# Altium footprint library Con IDC.PcbLib: 111 footprints (part 7 of 8)
Each footprint in its own frame and in the unit in brackets; x right, y up, seen from the top. Pads: shape width x height; smd on the part's side, far side on the other; paste and mask are expansions set on the pad; w line width, h text height; cw(c..) or ccw(c..) is an arc to the next point about the centre after c.
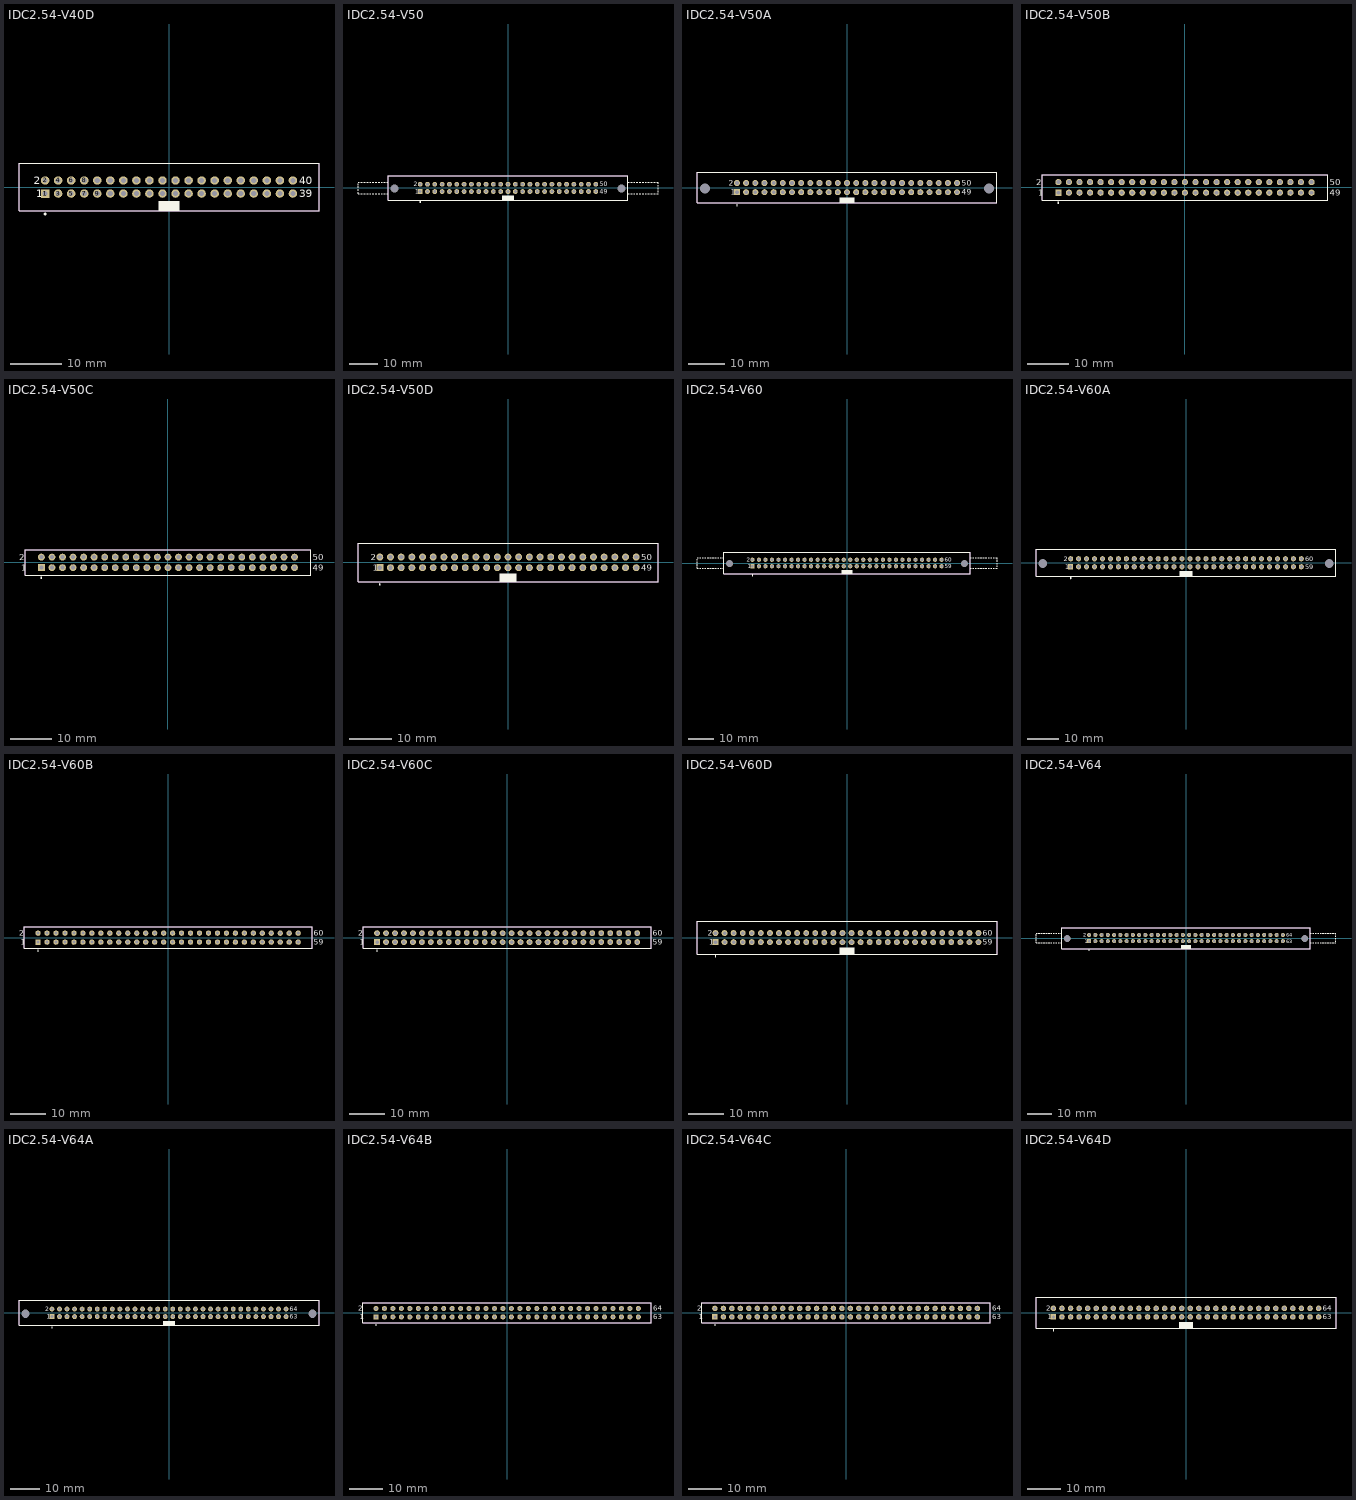
[diagram p6: the footprints below, top view; thin cyan lines are the x and y axes]

## IDC2.54-V40D [mm] "Connector; IDC, Low Profile Male Header, Thru-Hole; 40 Position; Vertical; Pitch 2.54 mm; Body 58.42 x 9.2 x 9.45 mm (LxWxH)"
height 9.45
pads (40):
  rect 1.65x1.65 hole 1: 1(-24.13,-1.27)
  round 1.65 hole 1: 2(-24.13,1.27) 3(-21.59,-1.27) 4(-21.59,1.27) 5(-19.05,-1.27) 6(-19.05,1.27) 7(-16.51,-1.27) 8(-16.51,1.27) 9(-13.97,-1.27) 10(-13.97,1.27) 11(-11.43,-1.27) 12(-11.43,1.27) 13(-8.89,-1.27) 14(-8.89,1.27) 15(-6.35,-1.27) 16(-6.35,1.27) 17(-3.81,-1.27) 18(-3.81,1.27) 19(-1.27,-1.27) 20(-1.27,1.27) 21(1.27,-1.27) 22(1.27,1.27) 23(3.81,-1.27) 24(3.81,1.27) 25(6.35,-1.27) 26(6.35,1.27) 27(8.89,-1.27) 28(8.89,1.27) 29(11.43,-1.27) 30(11.43,1.27) 31(13.97,-1.27) 32(13.97,1.27) 33(16.51,-1.27) 34(16.51,1.27) 35(19.05,-1.27) 36(19.05,1.27) 37(21.59,-1.27) 38(21.59,1.27) 39(24.13,-1.27) 40(24.13,1.27)
Top Overlay:
  circle w0.25: c-24.13,-5.25 r0.125
  rectangle: -2.05,-4.6 2.05,-2.7
  lines w0.2: -29.21,-4.6 29.21,-4.6 29.21,4.6 -29.21,4.6 -29.21,-4.6
  text "39" at 25.33,-2.02 h1.5
  text "40" at 25.33,0.52 h1.5
  text "1" at -25.83,-2.02 h1.5
  text "2" at -26.33,0.52 h1.5
Mechanical 13:
  lines w0.1: -29.21,-4.6 -29.21,4.6 29.21,4.6 29.21,-4.6 -29.21,-4.6
3D body: height 9.45, standoff 0, extent -29.21,-4.6 29.21,4.6

## IDC2.54-V50 [mm] "Connector; IDC, Thru-Hole; 50 Position; Vertical; Pitch 2.54 mm; Body 83.10 x 8.5 x 25.75 mm (LxWxH), Locking levers"
height 25.75
pads (52):
  rect 1.65x1.65 hole 1: 1(-30.48,-1.27)
  round 1.65 hole 1: 2(-30.48,1.27) 3(-27.94,-1.27) 4(-27.94,1.27) 5(-25.4,-1.27) 6(-25.4,1.27) 7(-22.86,-1.27) 8(-22.86,1.27) 9(-20.32,-1.27) 10(-20.32,1.27) 11(-17.78,-1.27) 12(-17.78,1.27) 13(-15.24,-1.27) 14(-15.24,1.27) 15(-12.7,-1.27) 16(-12.7,1.27) 17(-10.16,-1.27) 18(-10.16,1.27) 19(-7.62,-1.27) 20(-7.62,1.27) 21(-5.08,-1.27) 22(-5.08,1.27) 23(-2.54,-1.27) 24(-2.54,1.27) 25(0,-1.27) 26(0,1.27) 27(2.54,-1.27) 28(2.54,1.27) 29(5.08,-1.27) 30(5.08,1.27) 31(7.62,-1.27) 32(7.62,1.27) 33(10.16,-1.27) 34(10.16,1.27) 35(12.7,-1.27) 36(12.7,1.27) 37(15.24,-1.27) 38(15.24,1.27) 39(17.78,-1.27) 40(17.78,1.27) 41(20.32,-1.27) 42(20.32,1.27) 43(22.86,-1.27) 44(22.86,1.27) 45(25.4,-1.27) 46(25.4,1.27) 47(27.94,-1.27) 48(27.94,1.27) 49(30.48,-1.27) 50(30.48,1.27)
  round 2.5 hole 2.8 unplated: MH1(-39.37,-0.25) MH2(39.37,-0.25)
Top Overlay:
  circle w0.25: c-30.48,-4.9 r0.125
  rectangle: -2.05,-4.25 2.05,-2.7
  lines w0.2: -52.05,-1.5 -52.05,-2 -51.55,-2 ; -52.05,-1 -52.05,-0.5 ; -52.05,0 -52.05,0.5 ; -52.05,1 -52.05,1.5 ; -52.05,2 -51.55,2 ; -51.05,-2 -50.55,-2 ; -51.05,2 -50.55,2 ; -50.05,-2 -49.55,-2 ; -50.05,2 -49.55,2 ; -49.05,-2 -48.55,-2 ; -49.05,2 -48.55,2 ; -48.05,-2 -47.55,-2 ; -48.05,2 -47.55,2 ; -47.05,-2 -46.55,-2 ; -47.05,2 -46.55,2 ; -46.05,-2 -45.55,-2 ; -46.05,2 -45.55,2 ; -45.05,-2 -44.55,-2 ; -45.05,2 -44.55,2 ; -44.05,-2 -43.55,-2 ; -44.05,2 -43.55,2 ; -43.05,-2 -42.55,-2 ; -43.05,2 -42.55,2 ; -42.05,-2 -41.55,-2 ; -42.05,2 -41.55,2 ; 41.55,-2 42.05,-2 ; 41.55,2 42.05,2 ; 42.55,-2 43.05,-2 ; 42.55,2 43.05,2 ; 43.55,-2 44.05,-2 ; 43.55,2 44.05,2 ; 44.55,-2 45.05,-2 ; 44.55,2 45.05,2 ; 45.55,-2 46.05,-2 ; 45.55,2 46.05,2 ; 46.55,-2 47.05,-2 ; 46.55,2 47.05,2 ; 47.55,-2 48.05,-2 ; 47.55,2 48.05,2 ; 48.55,-2 49.05,-2 ; 48.55,2 49.05,2 ; 49.55,-2 50.05,-2 ; 49.55,2 50.05,2 ; 50.55,-2 51.05,-2 ; 50.55,2 51.05,2 ; 51.55,-2 52.05,-2 ; 51.55,2 52.05,2 52.05,1.5 ; 52.05,-1.5 52.05,-1 ; 52.05,-0.5 52.05,0 ; 52.05,0.5 52.05,1 ; -41.55,-4.25 41.55,-4.25 41.55,4.25 -41.55,4.25 -41.55,-4.25
  text "49" at 31.76,-2.02 h1.5
  text "50" at 31.76,0.52 h1.5
  text "1" at -32.26,-2.02 h1.5
  text "2" at -32.76,0.52 h1.5
Mechanical 13:
  lines w0.1: -41.55,-4.25 -41.55,4.25 41.55,4.25 41.55,-4.25 -41.55,-4.25
3D body: height 25.75, standoff 0, extent -41.549,-4.249 41.549,4.249

## IDC2.54-V50A [mm] "Connector; IDC, Thru-Hole; 50 Position; Vertical; Pitch 2.54 mm; Body 83.10 x 8.5 x 17.30 mm (LxWxH), Without locking levers"
height 17.3
pads (52):
  rect 1.65x1.65 hole 1: 1(-30.48,-1.27)
  round 1.65 hole 1: 2(-30.48,1.27) 3(-27.94,-1.27) 4(-27.94,1.27) 5(-25.4,-1.27) 6(-25.4,1.27) 7(-22.86,-1.27) 8(-22.86,1.27) 9(-20.32,-1.27) 10(-20.32,1.27) 11(-17.78,-1.27) 12(-17.78,1.27) 13(-15.24,-1.27) 14(-15.24,1.27) 15(-12.7,-1.27) 16(-12.7,1.27) 17(-10.16,-1.27) 18(-10.16,1.27) 19(-7.62,-1.27) 20(-7.62,1.27) 21(-5.08,-1.27) 22(-5.08,1.27) 23(-2.54,-1.27) 24(-2.54,1.27) 25(0,-1.27) 26(0,1.27) 27(2.54,-1.27) 28(2.54,1.27) 29(5.08,-1.27) 30(5.08,1.27) 31(7.62,-1.27) 32(7.62,1.27) 33(10.16,-1.27) 34(10.16,1.27) 35(12.7,-1.27) 36(12.7,1.27) 37(15.24,-1.27) 38(15.24,1.27) 39(17.78,-1.27) 40(17.78,1.27) 41(20.32,-1.27) 42(20.32,1.27) 43(22.86,-1.27) 44(22.86,1.27) 45(25.4,-1.27) 46(25.4,1.27) 47(27.94,-1.27) 48(27.94,1.27) 49(30.48,-1.27) 50(30.48,1.27)
  round 2.5 hole 2.8 unplated: MH1(-39.37,-0.25) MH2(39.37,-0.25)
Top Overlay:
  circle w0.25: c-30.48,-4.9 r0.125
  rectangle: -2.05,-4.25 2.05,-2.7
  lines w0.2: -41.55,-4.25 -41.55,4.25 41.55,4.25 41.55,-4.25 -41.55,-4.25
  text "2" at -32.76,0.52 h1.5
  text "1" at -32.26,-2.02 h1.5
  text "50" at 31.76,0.52 h1.5
  text "49" at 31.76,-2.02 h1.5
Mechanical 13:
  lines w0.1: -41.55,-4.25 41.55,-4.25 41.55,4.25 -41.55,4.25 -41.55,-4.25
3D body: height 17.3, standoff 0, extent -41.55,-4.25 41.55,4.25

## IDC2.54-V50B [mm] "Connector; IDC, PCB Transition - 2 Rows, Thru-Hole; 50 Position; Vertical; Pitch 2.54 mm; Body 68.80 x 6.1 x 7.45 mm (LxWxH)"
height 7.45
pads (50):
  rect 1.5x1.5 hole 0.9: 1(-30.48,-1.27)
  round 1.5 hole 0.9: 2(-30.48,1.27) 3(-27.94,-1.27) 4(-27.94,1.27) 5(-25.4,-1.27) 6(-25.4,1.27) 7(-22.86,-1.27) 8(-22.86,1.27) 9(-20.32,-1.27) 10(-20.32,1.27) 11(-17.78,-1.27) 12(-17.78,1.27) 13(-15.24,-1.27) 14(-15.24,1.27) 15(-12.7,-1.27) 16(-12.7,1.27) 17(-10.16,-1.27) 18(-10.16,1.27) 19(-7.62,-1.27) 20(-7.62,1.27) 21(-5.08,-1.27) 22(-5.08,1.27) 23(-2.54,-1.27) 24(-2.54,1.27) 25(0,-1.27) 26(0,1.27) 27(2.54,-1.27) 28(2.54,1.27) 29(5.08,-1.27) 30(5.08,1.27) 31(7.62,-1.27) 32(7.62,1.27) 33(10.16,-1.27) 34(10.16,1.27) 35(12.7,-1.27) 36(12.7,1.27) 37(15.24,-1.27) 38(15.24,1.27) 39(17.78,-1.27) 40(17.78,1.27) 41(20.32,-1.27) 42(20.32,1.27) 43(22.86,-1.27) 44(22.86,1.27) 45(25.4,-1.27) 46(25.4,1.27) 47(27.94,-1.27) 48(27.94,1.27) 49(30.48,-1.27) 50(30.48,1.27)
Top Overlay:
  circle w0.25: c-30.48,-3.7 r0.125
  lines w0.2: -34.4,-3.05 -34.4,3.05 34.4,3.05 34.4,-3.05 -34.4,-3.05
  text "2" at -35.875,0.52 h1.5
  text "1" at -35.375,-2.02 h1.5
  text "50" at 34.875,0.52 h1.5
  text "49" at 34.875,-2.02 h1.5
Mechanical 13:
  lines w0.1: -34.4,-3.05 -34.4,3.05 34.4,3.05 34.4,-3.05 -34.4,-3.05
3D body: height 7.45, standoff 0, extent -34.4,-3.05 34.4,3.05

## IDC2.54-V50C [mm] "Connector; IDC, PCB Transition - 2 Rows, Thru-Hole; 50 Position; Vertical; Pitch 2.54 mm; Body 68.80 x 6.1 x 7.45 mm (LxWxH), Kinked Contacts"
height 7.45
pads (50):
  rect 1.65x1.65 hole 1: 1(-30.48,-1.27)
  round 1.65 hole 1: 2(-30.48,1.27) 3(-27.94,-1.27) 4(-27.94,1.27) 5(-25.4,-1.27) 6(-25.4,1.27) 7(-22.86,-1.27) 8(-22.86,1.27) 9(-20.32,-1.27) 10(-20.32,1.27) 11(-17.78,-1.27) 12(-17.78,1.27) 13(-15.24,-1.27) 14(-15.24,1.27) 15(-12.7,-1.27) 16(-12.7,1.27) 17(-10.16,-1.27) 18(-10.16,1.27) 19(-7.62,-1.27) 20(-7.62,1.27) 21(-5.08,-1.27) 22(-5.08,1.27) 23(-2.54,-1.27) 24(-2.54,1.27) 25(0,-1.27) 26(0,1.27) 27(2.54,-1.27) 28(2.54,1.27) 29(5.08,-1.27) 30(5.08,1.27) 31(7.62,-1.27) 32(7.62,1.27) 33(10.16,-1.27) 34(10.16,1.27) 35(12.7,-1.27) 36(12.7,1.27) 37(15.24,-1.27) 38(15.24,1.27) 39(17.78,-1.27) 40(17.78,1.27) 41(20.32,-1.27) 42(20.32,1.27) 43(22.86,-1.27) 44(22.86,1.27) 45(25.4,-1.27) 46(25.4,1.27) 47(27.94,-1.27) 48(27.94,1.27) 49(30.48,-1.27) 50(30.48,1.27)
Top Overlay:
  circle w0.25: c-30.48,-3.7 r0.125
  lines w0.2: -34.4,-3.05 34.4,-3.05 34.4,3.05 -34.4,3.05 -34.4,-3.05
  text "49" at 34.875,-2.02 h1.5
  text "50" at 34.875,0.52 h1.5
  text "1" at -35.375,-2.02 h1.5
  text "2" at -35.875,0.52 h1.5
Mechanical 13:
  lines w0.1: -34.4,-3.05 -34.4,3.05 34.4,3.05 34.4,-3.05 -34.4,-3.05
3D body: height 7.45, standoff 0, extent -34.4,-3.05 34.4,3.05

## IDC2.54-V50D [mm] "Connector; IDC, Low Profile Male Header, Thru-Hole; 50 Position; Vertical; Pitch 2.54 mm; Body 71.32 x 9.2 x 9.45 mm (LxWxH)"
height 9.45
pads (50):
  rect 1.65x1.65 hole 1: 1(-30.48,-1.27)
  round 1.65 hole 1: 2(-30.48,1.27) 3(-27.94,-1.27) 4(-27.94,1.27) 5(-25.4,-1.27) 6(-25.4,1.27) 7(-22.86,-1.27) 8(-22.86,1.27) 9(-20.32,-1.27) 10(-20.32,1.27) 11(-17.78,-1.27) 12(-17.78,1.27) 13(-15.24,-1.27) 14(-15.24,1.27) 15(-12.7,-1.27) 16(-12.7,1.27) 17(-10.16,-1.27) 18(-10.16,1.27) 19(-7.62,-1.27) 20(-7.62,1.27) 21(-5.08,-1.27) 22(-5.08,1.27) 23(-2.54,-1.27) 24(-2.54,1.27) 25(0,-1.27) 26(0,1.27) 27(2.54,-1.27) 28(2.54,1.27) 29(5.08,-1.27) 30(5.08,1.27) 31(7.62,-1.27) 32(7.62,1.27) 33(10.16,-1.27) 34(10.16,1.27) 35(12.7,-1.27) 36(12.7,1.27) 37(15.24,-1.27) 38(15.24,1.27) 39(17.78,-1.27) 40(17.78,1.27) 41(20.32,-1.27) 42(20.32,1.27) 43(22.86,-1.27) 44(22.86,1.27) 45(25.4,-1.27) 46(25.4,1.27) 47(27.94,-1.27) 48(27.94,1.27) 49(30.48,-1.27) 50(30.48,1.27)
Top Overlay:
  circle w0.25: c-30.48,-5.25 r0.125
  rectangle: -2.05,-4.6 2.05,-2.7
  lines w0.2: -35.66,-4.6 -35.66,4.6 35.66,4.6 35.66,-4.6 -35.66,-4.6
  text "2" at -32.68,0.52 h1.5
  text "1" at -32.18,-2.02 h1.5
  text "50" at 31.68,0.52 h1.5
  text "49" at 31.68,-2.02 h1.5
Mechanical 13:
  lines w0.1: -35.66,-4.6 -35.66,4.6 35.66,4.6 35.66,-4.6 -35.66,-4.6
3D body: height 9.45, standoff 0, extent -35.66,-4.6 35.66,4.6

## IDC2.54-V60 [mm] "Connector; IDC, Thru-Hole; 60 Position; Vertical; Pitch 2.54 mm; Body 95.80 x 8.5 x 25.75 mm (LxWxH), Locking levers"
height 25.75
pads (62):
  rect 1.65x1.65 hole 1: 1(-36.83,-1.27)
  round 1.65 hole 1: 2(-36.83,1.27) 3(-34.29,-1.27) 4(-34.29,1.27) 5(-31.75,-1.27) 6(-31.75,1.27) 7(-29.21,-1.27) 8(-29.21,1.27) 9(-26.67,-1.27) 10(-26.67,1.27) 11(-24.13,-1.27) 12(-24.13,1.27) 13(-21.59,-1.27) 14(-21.59,1.27) 15(-19.05,-1.27) 16(-19.05,1.27) 17(-16.51,-1.27) 18(-16.51,1.27) 19(-13.97,-1.27) 20(-13.97,1.27) 21(-11.43,-1.27) 22(-11.43,1.27) 23(-8.89,-1.27) 24(-8.89,1.27) 25(-6.35,-1.27) 26(-6.35,1.27) 27(-3.81,-1.27) 28(-3.81,1.27) 29(-1.27,-1.27) 30(-1.27,1.27) 31(1.27,-1.27) 32(1.27,1.27) 33(3.81,-1.27) 34(3.81,1.27) 35(6.35,-1.27) 36(6.35,1.27) 37(8.89,-1.27) 38(8.89,1.27) 39(11.43,-1.27) 40(11.43,1.27) 41(13.97,-1.27) 42(13.97,1.27) 43(16.51,-1.27) 44(16.51,1.27) 45(19.05,-1.27) 46(19.05,1.27) 47(21.59,-1.27) 48(21.59,1.27) 49(24.13,-1.27) 50(24.13,1.27) 51(26.67,-1.27) 52(26.67,1.27) 53(29.21,-1.27) 54(29.21,1.27) 55(31.75,-1.27) 56(31.75,1.27) 57(34.29,-1.27) 58(34.29,1.27) 59(36.83,-1.27) 60(36.83,1.27)
  round 2.5 hole 2.8 unplated: MH1(-45.72,-0.25) MH2(45.72,-0.25)
Top Overlay:
  circle w0.25: c-36.83,-4.9 r0.125
  rectangle: -2.05,-4.25 2.05,-2.7
  lines w0.2: -58.4,-1.5 -58.4,-2 -57.9,-2 ; -58.4,-1 -58.4,-0.5 ; -58.4,0 -58.4,0.5 ; -58.4,1 -58.4,1.5 ; -58.4,2 -57.9,2 ; -57.4,-2 -56.9,-2 ; -57.4,2 -56.9,2 ; -56.4,-2 -55.9,-2 ; -56.4,2 -55.9,2 ; -55.4,-2 -54.9,-2 ; -55.4,2 -54.9,2 ; -54.4,-2 -53.9,-2 ; -54.4,2 -53.9,2 ; -53.4,-2 -52.9,-2 ; -53.4,2 -52.9,2 ; -52.4,-2 -51.9,-2 ; -52.4,2 -51.9,2 ; -51.4,-2 -50.9,-2 ; -51.4,2 -50.9,2 ; -50.4,-2 -49.9,-2 ; -50.4,2 -49.9,2 ; -49.4,-2 -48.9,-2 ; -49.4,2 -48.9,2 ; -48.4,-2 -47.9,-2 ; -48.4,2 -47.9,2 ; 47.9,-2 48.4,-2 ; 47.9,2 48.4,2 ; 48.9,-2 49.4,-2 ; 48.9,2 49.4,2 ; 49.9,-2 50.4,-2 ; 49.9,2 50.4,2 ; 50.9,-2 51.4,-2 ; 50.9,2 51.4,2 ; 51.9,-2 52.4,-2 ; 51.9,2 52.4,2 ; 52.9,-2 53.4,-2 ; 52.9,2 53.4,2 ; 53.9,-2 54.4,-2 ; 53.9,2 54.4,2 ; 54.9,-2 55.4,-2 ; 54.9,2 55.4,2 ; 55.9,-2 56.4,-2 ; 55.9,2 56.4,2 ; 56.9,-2 57.4,-2 ; 56.9,2 57.4,2 ; 57.9,-2 58.4,-2 ; 57.9,2 58.4,2 58.4,1.5 ; 58.4,-1.5 58.4,-1 ; 58.4,-0.5 58.4,0 ; 58.4,0.5 58.4,1 ; -47.9,-4.25 47.9,-4.25 47.9,4.25 -47.9,4.25 -47.9,-4.25
  text "59" at 38.11,-2.02 h1.5
  text "60" at 38.11,0.52 h1.5
  text "1" at -38.61,-2.02 h1.5
  text "2" at -39.11,0.52 h1.5
Mechanical 13:
  lines w0.1: -47.9,-4.25 47.9,-4.25 47.9,4.25 -47.9,4.25 -47.9,-4.25
3D body: height 25.75, standoff 0, extent -47.899,-4.249 47.899,4.249

## IDC2.54-V60A [mm] "Connector; IDC, Thru-Hole; 60 Position; Vertical; Pitch 2.54 mm; Body 95.80 x 8.5 x 17.30 mm (LxWxH), Without locking levers"
height 17.3
pads (62):
  rect 1.65x1.65 hole 1: 1(-36.83,-1.27)
  round 1.65 hole 1: 2(-36.83,1.27) 3(-34.29,-1.27) 4(-34.29,1.27) 5(-31.75,-1.27) 6(-31.75,1.27) 7(-29.21,-1.27) 8(-29.21,1.27) 9(-26.67,-1.27) 10(-26.67,1.27) 11(-24.13,-1.27) 12(-24.13,1.27) 13(-21.59,-1.27) 14(-21.59,1.27) 15(-19.05,-1.27) 16(-19.05,1.27) 17(-16.51,-1.27) 18(-16.51,1.27) 19(-13.97,-1.27) 20(-13.97,1.27) 21(-11.43,-1.27) 22(-11.43,1.27) 23(-8.89,-1.27) 24(-8.89,1.27) 25(-6.35,-1.27) 26(-6.35,1.27) 27(-3.81,-1.27) 28(-3.81,1.27) 29(-1.27,-1.27) 30(-1.27,1.27) 31(1.27,-1.27) 32(1.27,1.27) 33(3.81,-1.27) 34(3.81,1.27) 35(6.35,-1.27) 36(6.35,1.27) 37(8.89,-1.27) 38(8.89,1.27) 39(11.43,-1.27) 40(11.43,1.27) 41(13.97,-1.27) 42(13.97,1.27) 43(16.51,-1.27) 44(16.51,1.27) 45(19.05,-1.27) 46(19.05,1.27) 47(21.59,-1.27) 48(21.59,1.27) 49(24.13,-1.27) 50(24.13,1.27) 51(26.67,-1.27) 52(26.67,1.27) 53(29.21,-1.27) 54(29.21,1.27) 55(31.75,-1.27) 56(31.75,1.27) 57(34.29,-1.27) 58(34.29,1.27) 59(36.83,-1.27) 60(36.83,1.27)
  round 2.5 hole 2.8 unplated: MH1(-45.72,-0.25) MH2(45.72,-0.25)
Top Overlay:
  circle w0.25: c-36.83,-4.9 r0.125
  rectangle: -2.05,-4.25 2.05,-2.7
  lines w0.2: -47.9,-4.25 47.9,-4.25 47.9,4.25 -47.9,4.25 -47.9,-4.25
  text "59" at 38.11,-2.02 h1.5
  text "60" at 38.11,0.52 h1.5
  text "1" at -38.61,-2.02 h1.5
  text "2" at -39.11,0.52 h1.5
Mechanical 13:
  lines w0.1: -47.9,-4.25 -47.9,4.25 47.9,4.25 47.9,-4.25 -47.9,-4.25
3D body: height 17.3, standoff 0, extent -47.9,-4.25 47.9,4.25

## IDC2.54-V60B [mm] "Connector; IDC, PCB Transition - 2 Rows, Thru-Hole; 60 Position; Vertical; Pitch 2.54 mm; Body 81.50 x 6.1 x 7.45 mm (LxWxH)"
height 7.45
pads (60):
  rect 1.5x1.5 hole 0.9: 1(-36.83,-1.27)
  round 1.5 hole 0.9: 2(-36.83,1.27) 3(-34.29,-1.27) 4(-34.29,1.27) 5(-31.75,-1.27) 6(-31.75,1.27) 7(-29.21,-1.27) 8(-29.21,1.27) 9(-26.67,-1.27) 10(-26.67,1.27) 11(-24.13,-1.27) 12(-24.13,1.27) 13(-21.59,-1.27) 14(-21.59,1.27) 15(-19.05,-1.27) 16(-19.05,1.27) 17(-16.51,-1.27) 18(-16.51,1.27) 19(-13.97,-1.27) 20(-13.97,1.27) 21(-11.43,-1.27) 22(-11.43,1.27) 23(-8.89,-1.27) 24(-8.89,1.27) 25(-6.35,-1.27) 26(-6.35,1.27) 27(-3.81,-1.27) 28(-3.81,1.27) 29(-1.27,-1.27) 30(-1.27,1.27) 31(1.27,-1.27) 32(1.27,1.27) 33(3.81,-1.27) 34(3.81,1.27) 35(6.35,-1.27) 36(6.35,1.27) 37(8.89,-1.27) 38(8.89,1.27) 39(11.43,-1.27) 40(11.43,1.27) 41(13.97,-1.27) 42(13.97,1.27) 43(16.51,-1.27) 44(16.51,1.27) 45(19.05,-1.27) 46(19.05,1.27) 47(21.59,-1.27) 48(21.59,1.27) 49(24.13,-1.27) 50(24.13,1.27) 51(26.67,-1.27) 52(26.67,1.27) 53(29.21,-1.27) 54(29.21,1.27) 55(31.75,-1.27) 56(31.75,1.27) 57(34.29,-1.27) 58(34.29,1.27) 59(36.83,-1.27) 60(36.83,1.27)
Top Overlay:
  circle w0.25: c-36.83,-3.7 r0.125
  lines w0.2: -40.75,-3.05 40.75,-3.05 40.75,3.05 -40.75,3.05 -40.75,-3.05
  text "1" at -41.725,-2.02 h1.5
  text "2" at -42.225,0.52 h1.5
  text "59" at 41.225,-2.02 h1.5
  text "60" at 41.225,0.52 h1.5
Mechanical 13:
  lines w0.1: -40.75,-3.05 40.75,-3.05 40.75,3.05 -40.75,3.05 -40.75,-3.05
3D body: height 7.45, standoff 0, extent -40.75,-3.05 40.75,3.05

## IDC2.54-V60C [mm] "Connector; IDC, PCB Transition - 2 Rows, Thru-Hole; 60 Position; Vertical; Pitch 2.54 mm; Body 81.50 x 6.1 x 7.45 mm (LxWxH), Kinked Contacts"
height 7.45
pads (60):
  rect 1.65x1.65 hole 1: 1(-36.83,-1.27)
  round 1.65 hole 1: 2(-36.83,1.27) 3(-34.29,-1.27) 4(-34.29,1.27) 5(-31.75,-1.27) 6(-31.75,1.27) 7(-29.21,-1.27) 8(-29.21,1.27) 9(-26.67,-1.27) 10(-26.67,1.27) 11(-24.13,-1.27) 12(-24.13,1.27) 13(-21.59,-1.27) 14(-21.59,1.27) 15(-19.05,-1.27) 16(-19.05,1.27) 17(-16.51,-1.27) 18(-16.51,1.27) 19(-13.97,-1.27) 20(-13.97,1.27) 21(-11.43,-1.27) 22(-11.43,1.27) 23(-8.89,-1.27) 24(-8.89,1.27) 25(-6.35,-1.27) 26(-6.35,1.27) 27(-3.81,-1.27) 28(-3.81,1.27) 29(-1.27,-1.27) 30(-1.27,1.27) 31(1.27,-1.27) 32(1.27,1.27) 33(3.81,-1.27) 34(3.81,1.27) 35(6.35,-1.27) 36(6.35,1.27) 37(8.89,-1.27) 38(8.89,1.27) 39(11.43,-1.27) 40(11.43,1.27) 41(13.97,-1.27) 42(13.97,1.27) 43(16.51,-1.27) 44(16.51,1.27) 45(19.05,-1.27) 46(19.05,1.27) 47(21.59,-1.27) 48(21.59,1.27) 49(24.13,-1.27) 50(24.13,1.27) 51(26.67,-1.27) 52(26.67,1.27) 53(29.21,-1.27) 54(29.21,1.27) 55(31.75,-1.27) 56(31.75,1.27) 57(34.29,-1.27) 58(34.29,1.27) 59(36.83,-1.27) 60(36.83,1.27)
Top Overlay:
  circle w0.25: c-36.83,-3.7 r0.125
  lines w0.2: -40.75,-3.05 -40.75,3.05 40.75,3.05 40.75,-3.05 -40.75,-3.05
  text "60" at 41.225,0.52 h1.5
  text "59" at 41.225,-2.02 h1.5
  text "2" at -42.225,0.52 h1.5
  text "1" at -41.725,-2.02 h1.5
Mechanical 13:
  lines w0.1: -40.75,-3.05 40.75,-3.05 40.75,3.05 -40.75,3.05 -40.75,-3.05
3D body: height 7.45, standoff 0, extent -40.75,-3.05 40.75,3.05

## IDC2.54-V60D [mm] "Connector; IDC, Low Profile Male Header, Thru-Hole; 60 Position; Vertical; Pitch 2.54 mm; Body 84.02 x 9.2 x 9.45 mm (LxWxH)"
height 9.45
pads (60):
  rect 1.65x1.65 hole 1: 1(-36.83,-1.27)
  round 1.65 hole 1: 2(-36.83,1.27) 3(-34.29,-1.27) 4(-34.29,1.27) 5(-31.75,-1.27) 6(-31.75,1.27) 7(-29.21,-1.27) 8(-29.21,1.27) 9(-26.67,-1.27) 10(-26.67,1.27) 11(-24.13,-1.27) 12(-24.13,1.27) 13(-21.59,-1.27) 14(-21.59,1.27) 15(-19.05,-1.27) 16(-19.05,1.27) 17(-16.51,-1.27) 18(-16.51,1.27) 19(-13.97,-1.27) 20(-13.97,1.27) 21(-11.43,-1.27) 22(-11.43,1.27) 23(-8.89,-1.27) 24(-8.89,1.27) 25(-6.35,-1.27) 26(-6.35,1.27) 27(-3.81,-1.27) 28(-3.81,1.27) 29(-1.27,-1.27) 30(-1.27,1.27) 31(1.27,-1.27) 32(1.27,1.27) 33(3.81,-1.27) 34(3.81,1.27) 35(6.35,-1.27) 36(6.35,1.27) 37(8.89,-1.27) 38(8.89,1.27) 39(11.43,-1.27) 40(11.43,1.27) 41(13.97,-1.27) 42(13.97,1.27) 43(16.51,-1.27) 44(16.51,1.27) 45(19.05,-1.27) 46(19.05,1.27) 47(21.59,-1.27) 48(21.59,1.27) 49(24.13,-1.27) 50(24.13,1.27) 51(26.67,-1.27) 52(26.67,1.27) 53(29.21,-1.27) 54(29.21,1.27) 55(31.75,-1.27) 56(31.75,1.27) 57(34.29,-1.27) 58(34.29,1.27) 59(36.83,-1.27) 60(36.83,1.27)
Top Overlay:
  circle w0.25: c-36.83,-5.25 r0.125
  rectangle: -2.05,-4.6 2.05,-2.7
  lines w0.2: -42.01,-4.6 42.01,-4.6 42.01,4.6 -42.01,4.6 -42.01,-4.6
  text "59" at 38.03,-2.02 h1.5
  text "60" at 38.03,0.52 h1.5
  text "1" at -38.53,-2.02 h1.5
  text "2" at -39.03,0.52 h1.5
Mechanical 13:
  lines w0.1: -42.01,-4.6 -42.01,4.6 42.01,4.6 42.01,-4.6 -42.01,-4.6
3D body: height 9.45, standoff 0, extent -42.01,-4.6 42.01,4.6

## IDC2.54-V64 [mm] "Connector; IDC, Thru-Hole; 64 Position; Vertical; Pitch 2.54 mm; Body 100.88 x 8.5 x 25.75 mm (LxWxH), Locking levers"
height 25.75
pads (66):
  rect 1.65x1.65 hole 1: 1(-39.37,-1.27)
  round 1.65 hole 1: 2(-39.37,1.27) 3(-36.83,-1.27) 4(-36.83,1.27) 5(-34.29,-1.27) 6(-34.29,1.27) 7(-31.75,-1.27) 8(-31.75,1.27) 9(-29.21,-1.27) 10(-29.21,1.27) 11(-26.67,-1.27) 12(-26.67,1.27) 13(-24.13,-1.27) 14(-24.13,1.27) 15(-21.59,-1.27) 16(-21.59,1.27) 17(-19.05,-1.27) 18(-19.05,1.27) 19(-16.51,-1.27) 20(-16.51,1.27) 21(-13.97,-1.27) 22(-13.97,1.27) 23(-11.43,-1.27) 24(-11.43,1.27) 25(-8.89,-1.27) 26(-8.89,1.27) 27(-6.35,-1.27) 28(-6.35,1.27) 29(-3.81,-1.27) 30(-3.81,1.27) 31(-1.27,-1.27) 32(-1.27,1.27) 33(1.27,-1.27) 34(1.27,1.27) 35(3.81,-1.27) 36(3.81,1.27) 37(6.35,-1.27) 38(6.35,1.27) 39(8.89,-1.27) 40(8.89,1.27) 41(11.43,-1.27) 42(11.43,1.27) 43(13.97,-1.27) 44(13.97,1.27) 45(16.51,-1.27) 46(16.51,1.27) 47(19.05,-1.27) 48(19.05,1.27) 49(21.59,-1.27) 50(21.59,1.27) 51(24.13,-1.27) 52(24.13,1.27) 53(26.67,-1.27) 54(26.67,1.27) 55(29.21,-1.27) 56(29.21,1.27) 57(31.75,-1.27) 58(31.75,1.27) 59(34.29,-1.27) 60(34.29,1.27) 61(36.83,-1.27) 62(36.83,1.27) 63(39.37,-1.27) 64(39.37,1.27)
  round 2.5 hole 2.8 unplated: MH1(-48.26,-0.25) MH2(48.26,-0.25)
Top Overlay:
  circle w0.25: c-39.37,-4.9 r0.125
  rectangle: -2.05,-4.25 2.05,-2.75
  lines w0.2: -60.94,-1.5 -60.94,-2 -60.44,-2 ; -60.94,-1 -60.94,-0.5 ; -60.94,0 -60.94,0.5 ; -60.94,1 -60.94,1.5 ; -60.94,2 -60.44,2 ; -59.94,-2 -59.44,-2 ; -59.94,2 -59.44,2 ; -58.94,-2 -58.44,-2 ; -58.94,2 -58.44,2 ; -57.94,-2 -57.44,-2 ; -57.94,2 -57.44,2 ; -56.94,-2 -56.44,-2 ; -56.94,2 -56.44,2 ; -55.94,-2 -55.44,-2 ; -55.94,2 -55.44,2 ; -54.94,-2 -54.44,-2 ; -54.94,2 -54.44,2 ; -53.94,-2 -53.44,-2 ; -53.94,2 -53.44,2 ; -52.94,-2 -52.44,-2 ; -52.94,2 -52.44,2 ; -51.94,-2 -51.44,-2 ; -51.94,2 -51.44,2 ; -50.94,-2 -50.44,-2 ; -50.94,2 -50.44,2 ; 50.44,-2 50.94,-2 ; 50.44,2 50.94,2 ; 51.44,-2 51.94,-2 ; 51.44,2 51.94,2 ; 52.44,-2 52.94,-2 ; 52.44,2 52.94,2 ; 53.44,-2 53.94,-2 ; 53.44,2 53.94,2 ; 54.44,-2 54.94,-2 ; 54.44,2 54.94,2 ; 55.44,-2 55.94,-2 ; 55.44,2 55.94,2 ; 56.44,-2 56.94,-2 ; 56.44,2 56.94,2 ; 57.44,-2 57.94,-2 ; 57.44,2 57.94,2 ; 58.44,-2 58.94,-2 ; 58.44,2 58.94,2 ; 59.44,-2 59.94,-2 ; 59.44,2 59.94,2 ; 60.44,-2 60.94,-2 ; 60.44,2 60.94,2 60.94,1.5 ; 60.94,-1.5 60.94,-1 ; 60.94,-0.5 60.94,0 ; 60.94,0.5 60.94,1 ; -50.44,-4.25 50.44,-4.25 50.44,4.25 -50.44,4.25 -50.44,-4.25
  text "63" at 40.65,-2.02 h1.5
  text "64" at 40.65,0.52 h1.5
  text "1" at -41.15,-2.02 h1.5
  text "2" at -41.65,0.52 h1.5
Mechanical 13:
  lines w0.1: -50.44,-4.25 50.44,-4.25 50.44,4.25 -50.44,4.25 -50.44,-4.25
3D body: height 25.75, standoff 0, extent -50.439,-4.249 50.439,4.249

## IDC2.54-V64A [mm] "Connector; IDC, Thru-Hole; 64 Position; Vertical; Pitch 2.54 mm; Body 100.88 x 8.5 x 17.30 mm (LxWxH), Without locking levers"
height 17.3
pads (66):
  rect 1.65x1.65 hole 1: 1(-39.37,-1.27)
  round 1.65 hole 1: 2(-39.37,1.27) 3(-36.83,-1.27) 4(-36.83,1.27) 5(-34.29,-1.27) 6(-34.29,1.27) 7(-31.75,-1.27) 8(-31.75,1.27) 9(-29.21,-1.27) 10(-29.21,1.27) 11(-26.67,-1.27) 12(-26.67,1.27) 13(-24.13,-1.27) 14(-24.13,1.27) 15(-21.59,-1.27) 16(-21.59,1.27) 17(-19.05,-1.27) 18(-19.05,1.27) 19(-16.51,-1.27) 20(-16.51,1.27) 21(-13.97,-1.27) 22(-13.97,1.27) 23(-11.43,-1.27) 24(-11.43,1.27) 25(-8.89,-1.27) 26(-8.89,1.27) 27(-6.35,-1.27) 28(-6.35,1.27) 29(-3.81,-1.27) 30(-3.81,1.27) 31(-1.27,-1.27) 32(-1.27,1.27) 33(1.27,-1.27) 34(1.27,1.27) 35(3.81,-1.27) 36(3.81,1.27) 37(6.35,-1.27) 38(6.35,1.27) 39(8.89,-1.27) 40(8.89,1.27) 41(11.43,-1.27) 42(11.43,1.27) 43(13.97,-1.27) 44(13.97,1.27) 45(16.51,-1.27) 46(16.51,1.27) 47(19.05,-1.27) 48(19.05,1.27) 49(21.59,-1.27) 50(21.59,1.27) 51(24.13,-1.27) 52(24.13,1.27) 53(26.67,-1.27) 54(26.67,1.27) 55(29.21,-1.27) 56(29.21,1.27) 57(31.75,-1.27) 58(31.75,1.27) 59(34.29,-1.27) 60(34.29,1.27) 61(36.83,-1.27) 62(36.83,1.27) 63(39.37,-1.27) 64(39.37,1.27)
  round 2.5 hole 2.8 unplated: MH1(-48.26,-0.25) MH2(48.26,-0.25)
Top Overlay:
  circle w0.25: c-39.37,-4.9 r0.125
  rectangle: -2.05,-4.25 2.05,-2.75
  lines w0.2: -50.44,-4.25 -50.44,4.25 50.44,4.25 50.44,-4.25 -50.44,-4.25
  text "2" at -41.65,0.52 h1.5
  text "1" at -41.15,-2.02 h1.5
  text "64" at 40.65,0.52 h1.5
  text "63" at 40.65,-2.02 h1.5
Mechanical 13:
  lines w0.1: -50.44,-4.25 -50.44,4.25 50.44,4.25 50.44,-4.25 -50.44,-4.25
3D body: height 17.3, standoff 0, extent -50.44,-4.25 50.44,4.25

## IDC2.54-V64B [mm] "Connector; IDC, PCB Transition - 2 Rows, Thru-Hole; 64 Position; Vertical; Pitch 2.54 mm; Body 86.58 x 6.1 x 7.45 mm (LxWxH)"
height 7.45
pads (64):
  rect 1.5x1.5 hole 0.9: 1(-39.37,-1.27)
  round 1.5 hole 0.9: 2(-39.37,1.27) 3(-36.83,-1.27) 4(-36.83,1.27) 5(-34.29,-1.27) 6(-34.29,1.27) 7(-31.75,-1.27) 8(-31.75,1.27) 9(-29.21,-1.27) 10(-29.21,1.27) 11(-26.67,-1.27) 12(-26.67,1.27) 13(-24.13,-1.27) 14(-24.13,1.27) 15(-21.59,-1.27) 16(-21.59,1.27) 17(-19.05,-1.27) 18(-19.05,1.27) 19(-16.51,-1.27) 20(-16.51,1.27) 21(-13.97,-1.27) 22(-13.97,1.27) 23(-11.43,-1.27) 24(-11.43,1.27) 25(-8.89,-1.27) 26(-8.89,1.27) 27(-6.35,-1.27) 28(-6.35,1.27) 29(-3.81,-1.27) 30(-3.81,1.27) 31(-1.27,-1.27) 32(-1.27,1.27) 33(1.27,-1.27) 34(1.27,1.27) 35(3.81,-1.27) 36(3.81,1.27) 37(6.35,-1.27) 38(6.35,1.27) 39(8.89,-1.27) 40(8.89,1.27) 41(11.43,-1.27) 42(11.43,1.27) 43(13.97,-1.27) 44(13.97,1.27) 45(16.51,-1.27) 46(16.51,1.27) 47(19.05,-1.27) 48(19.05,1.27) 49(21.59,-1.27) 50(21.59,1.27) 51(24.13,-1.27) 52(24.13,1.27) 53(26.67,-1.27) 54(26.67,1.27) 55(29.21,-1.27) 56(29.21,1.27) 57(31.75,-1.27) 58(31.75,1.27) 59(34.29,-1.27) 60(34.29,1.27) 61(36.83,-1.27) 62(36.83,1.27) 63(39.37,-1.27) 64(39.37,1.27)
Top Overlay:
  circle w0.25: c-39.37,-3.7 r0.125
  lines w0.2: -43.29,-3.05 43.29,-3.05 43.29,3.05 -43.29,3.05 -43.29,-3.05
  text "1" at -44.265,-2.02 h1.5
  text "2" at -44.765,0.52 h1.5
  text "63" at 43.765,-2.02 h1.5
  text "64" at 43.765,0.52 h1.5
Mechanical 13:
  lines w0.1: -43.29,-3.05 43.29,-3.05 43.29,3.05 -43.29,3.05 -43.29,-3.05
3D body: height 7.45, standoff 0, extent -43.29,-3.05 43.29,3.05

## IDC2.54-V64C [mm] "Connector; IDC, PCB Transition - 2 Rows, Thru-Hole; 64 Position; Vertical; Pitch 2.54 mm; Body 86.58 x 6.1 x 7.45 mm (LxWxH), Kinked Contacts"
height 7.45
pads (64):
  rect 1.65x1.65 hole 1: 1(-39.37,-1.27)
  round 1.65 hole 1: 2(-39.37,1.27) 3(-36.83,-1.27) 4(-36.83,1.27) 5(-34.29,-1.27) 6(-34.29,1.27) 7(-31.75,-1.27) 8(-31.75,1.27) 9(-29.21,-1.27) 10(-29.21,1.27) 11(-26.67,-1.27) 12(-26.67,1.27) 13(-24.13,-1.27) 14(-24.13,1.27) 15(-21.59,-1.27) 16(-21.59,1.27) 17(-19.05,-1.27) 18(-19.05,1.27) 19(-16.51,-1.27) 20(-16.51,1.27) 21(-13.97,-1.27) 22(-13.97,1.27) 23(-11.43,-1.27) 24(-11.43,1.27) 25(-8.89,-1.27) 26(-8.89,1.27) 27(-6.35,-1.27) 28(-6.35,1.27) 29(-3.81,-1.27) 30(-3.81,1.27) 31(-1.27,-1.27) 32(-1.27,1.27) 33(1.27,-1.27) 34(1.27,1.27) 35(3.81,-1.27) 36(3.81,1.27) 37(6.35,-1.27) 38(6.35,1.27) 39(8.89,-1.27) 40(8.89,1.27) 41(11.43,-1.27) 42(11.43,1.27) 43(13.97,-1.27) 44(13.97,1.27) 45(16.51,-1.27) 46(16.51,1.27) 47(19.05,-1.27) 48(19.05,1.27) 49(21.59,-1.27) 50(21.59,1.27) 51(24.13,-1.27) 52(24.13,1.27) 53(26.67,-1.27) 54(26.67,1.27) 55(29.21,-1.27) 56(29.21,1.27) 57(31.75,-1.27) 58(31.75,1.27) 59(34.29,-1.27) 60(34.29,1.27) 61(36.83,-1.27) 62(36.83,1.27) 63(39.37,-1.27) 64(39.37,1.27)
Top Overlay:
  circle w0.25: c-39.37,-3.7 r0.125
  lines w0.2: -43.29,-3.05 -43.29,3.05 43.29,3.05 43.29,-3.05 -43.29,-3.05
  text "64" at 43.765,0.52 h1.5
  text "63" at 43.765,-2.02 h1.5
  text "2" at -44.765,0.52 h1.5
  text "1" at -44.265,-2.02 h1.5
Mechanical 13:
  lines w0.1: -43.29,-3.05 -43.29,3.05 43.29,3.05 43.29,-3.05 -43.29,-3.05
3D body: height 7.45, standoff 0, extent -43.29,-3.05 43.29,3.05

## IDC2.54-V64D [mm] "Connector; IDC, Low Profile Male Header, Thru-Hole; 64 Position; Vertical; Pitch 2.54 mm; Body 89.10 x 9.2 x 9.45 mm (LxWxH)"
height 9.45
pads (64):
  rect 1.65x1.65 hole 1: 1(-39.37,-1.27)
  round 1.65 hole 1: 2(-39.37,1.27) 3(-36.83,-1.27) 4(-36.83,1.27) 5(-34.29,-1.27) 6(-34.29,1.27) 7(-31.75,-1.27) 8(-31.75,1.27) 9(-29.21,-1.27) 10(-29.21,1.27) 11(-26.67,-1.27) 12(-26.67,1.27) 13(-24.13,-1.27) 14(-24.13,1.27) 15(-21.59,-1.27) 16(-21.59,1.27) 17(-19.05,-1.27) 18(-19.05,1.27) 19(-16.51,-1.27) 20(-16.51,1.27) 21(-13.97,-1.27) 22(-13.97,1.27) 23(-11.43,-1.27) 24(-11.43,1.27) 25(-8.89,-1.27) 26(-8.89,1.27) 27(-6.35,-1.27) 28(-6.35,1.27) 29(-3.81,-1.27) 30(-3.81,1.27) 31(-1.27,-1.27) 32(-1.27,1.27) 33(1.27,-1.27) 34(1.27,1.27) 35(3.81,-1.27) 36(3.81,1.27) 37(6.35,-1.27) 38(6.35,1.27) 39(8.89,-1.27) 40(8.89,1.27) 41(11.43,-1.27) 42(11.43,1.27) 43(13.97,-1.27) 44(13.97,1.27) 45(16.51,-1.27) 46(16.51,1.27) 47(19.05,-1.27) 48(19.05,1.27) 49(21.59,-1.27) 50(21.59,1.27) 51(24.13,-1.27) 52(24.13,1.27) 53(26.67,-1.27) 54(26.67,1.27) 55(29.21,-1.27) 56(29.21,1.27) 57(31.75,-1.27) 58(31.75,1.27) 59(34.29,-1.27) 60(34.29,1.27) 61(36.83,-1.27) 62(36.83,1.27) 63(39.37,-1.27) 64(39.37,1.27)
Top Overlay:
  circle w0.25: c-39.37,-5.25 r0.125
  rectangle: -2.05,-4.6 2.05,-2.75
  lines w0.2: -44.55,-4.6 -44.55,4.6 44.55,4.6 44.55,-4.6 -44.55,-4.6
  text "2" at -41.57,0.52 h1.5
  text "1" at -41.07,-2.02 h1.5
  text "64" at 40.57,0.52 h1.5
  text "63" at 40.57,-2.02 h1.5
Mechanical 13:
  lines w0.1: -44.55,-4.6 44.55,-4.6 44.55,4.6 -44.55,4.6 -44.55,-4.6
3D body: height 9.45, standoff 0, extent -44.55,-4.6 44.55,4.6